# Altium footprint library MIL Style RV6.PcbLib: 1 footprints
Each footprint in its own frame and in the unit in brackets; x right, y up, seen from the top. Pads: shape width x height; smd on the part's side, far side on the other; paste and mask are expansions set on the pad; w line width, h text height; cw(c..) or ccw(c..) is an arc to the next point about the centre after c.
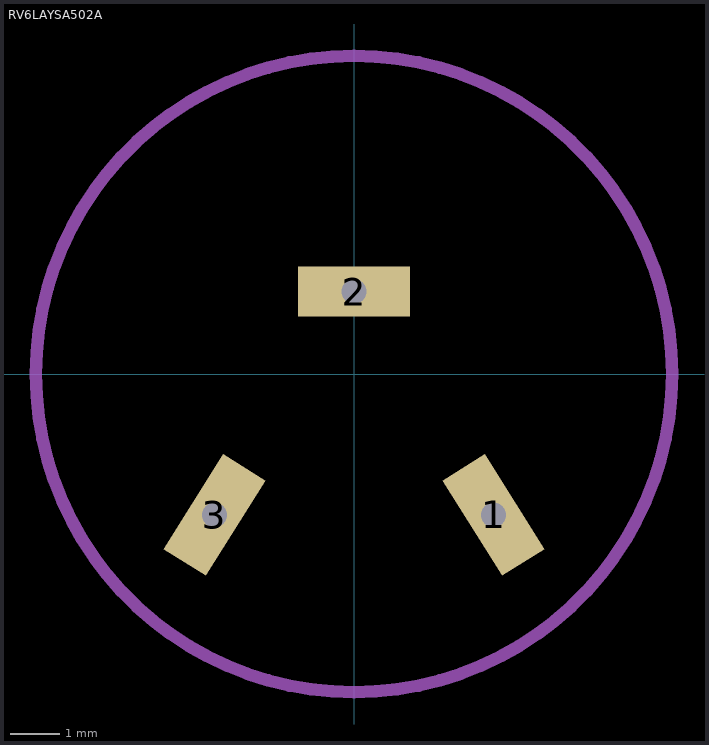
[diagram p0: the footprint, top view; thin cyan lines are the x and y axes]

## RV6LAYSA502A [mil] "5k Potentiometer"
pads (3):
  rect 90x40 hole 20 square rot 122: 1(111.81,-112.94)
  rect 90x40 hole 20 square: 2(0,66)
  rect 90x40 hole 20 square rot 58: 3(-111.81,-112.94)
Mechanical 1:
  circle w10: c0,0 r255
  region: 40,65